# EAGLE library part SSSS222700 (library Deegou-Switches-Buttons)
Switch 3.5mm DPDT Vertical 2mm travel
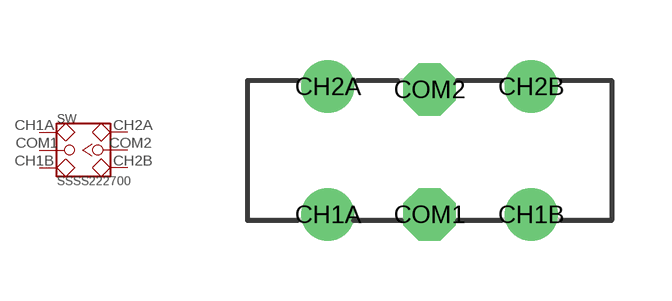
[diagram p1: symbol with the pads of SW6-2.54-9.0X3.5X3.2+2.0MM; footprint SW6-2.54-9.0X3.5X3.2+2.0MM]

Designator prefix SW

## SSSS222700 (MFR: ALPS; MPN: SSSS222700)  [SW6-2.54-9.0X3.5X3.2+2.0MM]
CH1A  CH1A
CH1B  CH1B
CH2A  CH2A
CH2B  CH2B
COM1  COM1
COM2  COM2

## Footprint SW6-2.54-9.0X3.5X3.2+2.0MM (pad centres in mm)
drill 0.813 pad 1.27: CH1A -2.54,-1.6; CH1B 2.54,-1.6; CH2A -2.54,1.6; CH2B 2.54,1.6
drill 0.813 pad 1.27 octagon: COM1 0,-1.6; COM2 0,1.524